# Altium schematic symbol library FID_Round.SchLib: 1 symbol
Pins are listed as number, name and electrical type; pins without a type are passive.

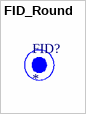
[diagram p0: symbol FID_Round]

## FID_Round
designator FID?  (no BOM)